# Altium footprint library SO8-150 PoweredPad.PcbLib: 1 footprints
Each footprint in its own frame and in the unit in brackets; x right, y up, seen from the top. Pads: shape width x height; smd on the part's side, far side on the other; paste and mask are expansions set on the pad; w line width, h text height; cw(c..) or ccw(c..) is an arc to the next point about the centre after c.
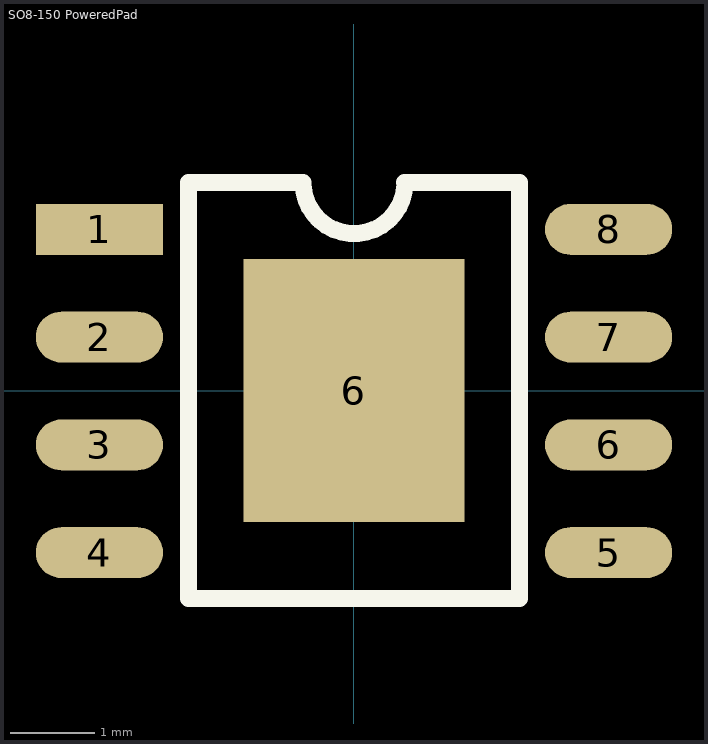
[diagram p0: the footprint, top view; thin cyan lines are the x and y axes]

## SO8-150 PoweredPad [mm]
pads (9):
  rect 1.5x0.6 smd: 1(-3,1.9)
  oval 1.5x0.6 smd: 2(-3,0.63) 3(-3,-0.64) 4(-3,-1.91) 5(3,-1.91) 6(3,-0.64) 7(3,0.63) 8(3,1.9)
  rect 2.6x3.1 smd: 6(0,0)
Top Overlay:
  lines w0.2: -0.605,2.45 -1.95,2.45 -1.95,-2.45 1.95,-2.45 1.95,2.45 0.595,2.45 ; -0.6,2.45 ccw(c0,2.45) 0.6,2.45
Top Assembly:
  lines w0.1: -1.95,-2.45 1.95,-2.45 1.95,2.45 0.6,2.45 cw(c0,2.45) -0.6,2.45 -1.95,2.45 -1.95,-2.45
  text "'.Designator'" at -0.925,-0.35 h0.7
3D body "User Library-so8-3.step": height 1.7, standoff 0, extent -3,-2.45 3,2.45